# Altium footprint library LEDTMARIX.PcbLib: 1 footprints
Each footprint in its own frame and in the unit in brackets; x right, y up, seen from the top. Pads: shape width x height; smd on the part's side, far side on the other; paste and mask are expansions set on the pad; w line width, h text height; cw(c..) or ccw(c..) is an arc to the next point about the centre after c.
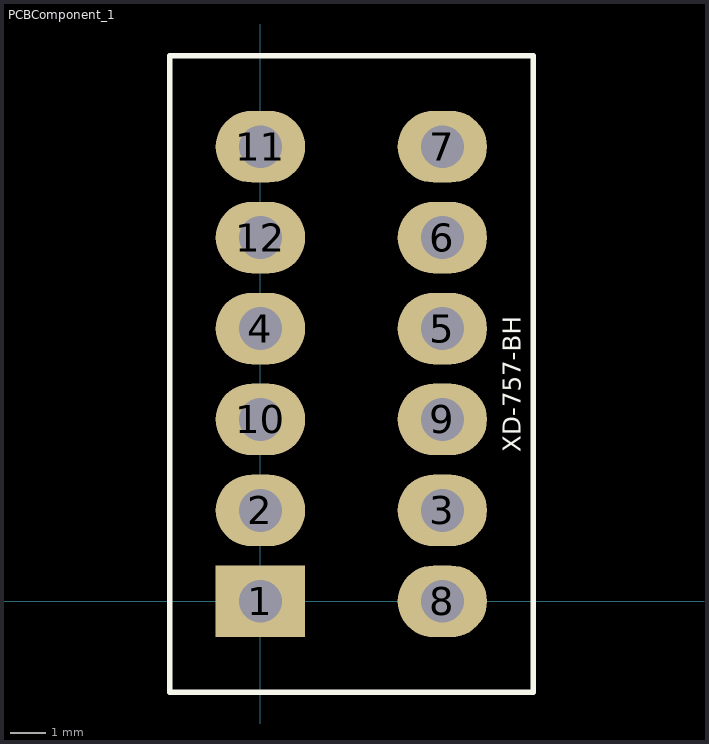
[diagram p0: the footprint, top view; thin cyan lines are the x and y axes]

## PCBComponent_1 [mm]
pads (12):
  rect 2.5x2 hole 1.2: 1(0,0)
  oval 2.5x2 hole 1.2: 2(0,2.54) 3(5.08,2.54) 4(0,7.62) 5(5.08,7.62) 6(5.08,10.16) 7(5.08,12.7) 8(5.08,0) 9(5.08,5.08) 10(0,5.08) 11(0,12.7) 12(0,10.16)
Top Layer:
Top Overlay:
  lines w0.152: -2.54,-2.54 7.62,-2.54 7.62,15.24 -2.54,15.24 -2.54,-2.54
  text "XD-757-BH" at 7.266,4.164 h0.5